# EAGLE library part 6250XX21721_62502021721 (library con-wurth)
WR-BHD 2.00 mm Male Angled Box Header KIND PROPERTIES: Pitch 2 mm Gender:Male MATERIAL PROPERTIES: Insulator Material:PBT Insulator Flammability Rating UL94 V-0 Insulator Color:Black Contact Material :Copper Alloy Contact Plating :Gold Contact Type: Stamped GENERAL INFORMATION: Operating Temperature:-40 °C up to +125 °C Compliance:RoHS Working Voltage: 250 V (AC) Withstanding Voltage:500 V (AC) Contact Resistance: 20 mΩ Insulation Resistance:1000 MΩ PACKAGING PROPERTIES Packaging :Tray <https://www.we-online.de/katalog/media/o32929v209%20Family_WR-BHD_6250xx21721.jpg> Details see: https://www.we-online.de/katalog/en/em/BHD_2_00_MALE_ANGLED_BOX_HEADER_6250XX21721 Updated by Yingchun,Shan 2019-11-04 2019 (C) Würth Elektronik
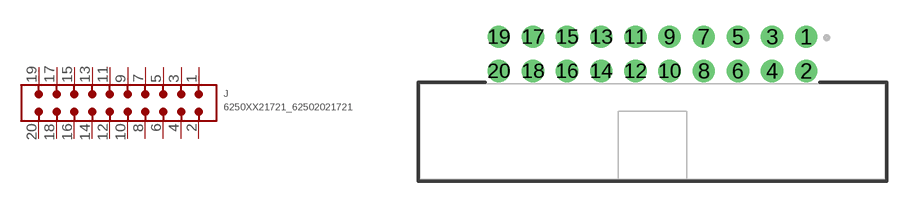
[diagram p197: symbol with the pads of 62502021721; footprint 62502021721]

Designator prefix J

## 6250XX21721_62502021721 (CONTACT-RESISTANCE: 20mOhm; DATASHEET-URL: https://www.we-online.com/redexpert/spec/62502021721?ae; GENDER: Male; IR: 2A; LENGTH: 27.25mm; MOUNT: THT; PACKAGING: Tray; PART-NUMBER: 62502021721; PINS: 20; PITCH: 2mm; TYPE: Angled; VALUE: 62502021721; WORKING-VOLTAGE: 250V(AC))  [62502021721]
1  1  pas
2  2  pas
3  3  pas
4  4  pas
5  5  pas
6  6  pas
7  7  pas
8  8  pas
9  9  pas
10  10  pas
11  11  pas
12  12  pas
13  13  pas
14  14  pas
15  15  pas
16  16  pas
17  17  pas
18  18  pas
19  19  pas
20  20  pas

## Footprint 62502021721 (pad centres in mm)
WR-BHD 2.00 mm Male Angled Box Header,20 pins
drill 0.8: 1 9,5.55; 2 9,3.55; 3 7,5.55; 4 7,3.55; 5 5,5.55; 6 5,3.55; 7 3,5.55; 8 3,3.55; 9 1,5.55; 10 1,3.55; 11 -1,5.55; 12 -1,3.55; 13 -3,5.55; 14 -3,3.55; 15 -5,5.55; 16 -5,3.55; 17 -7,5.55; 18 -7,3.55; 19 -9,5.55; 20 -9,3.55